# Altium footprint library PcbLib1.PcbLib: 226 footprints (part 14 of 15)
Each footprint in its own frame and in the unit in brackets; x right, y up, seen from the top. Pads: shape width x height; smd on the part's side, far side on the other; paste and mask are expansions set on the pad; w line width, h text height; cw(c..) or ccw(c..) is an arc to the next point about the centre after c.
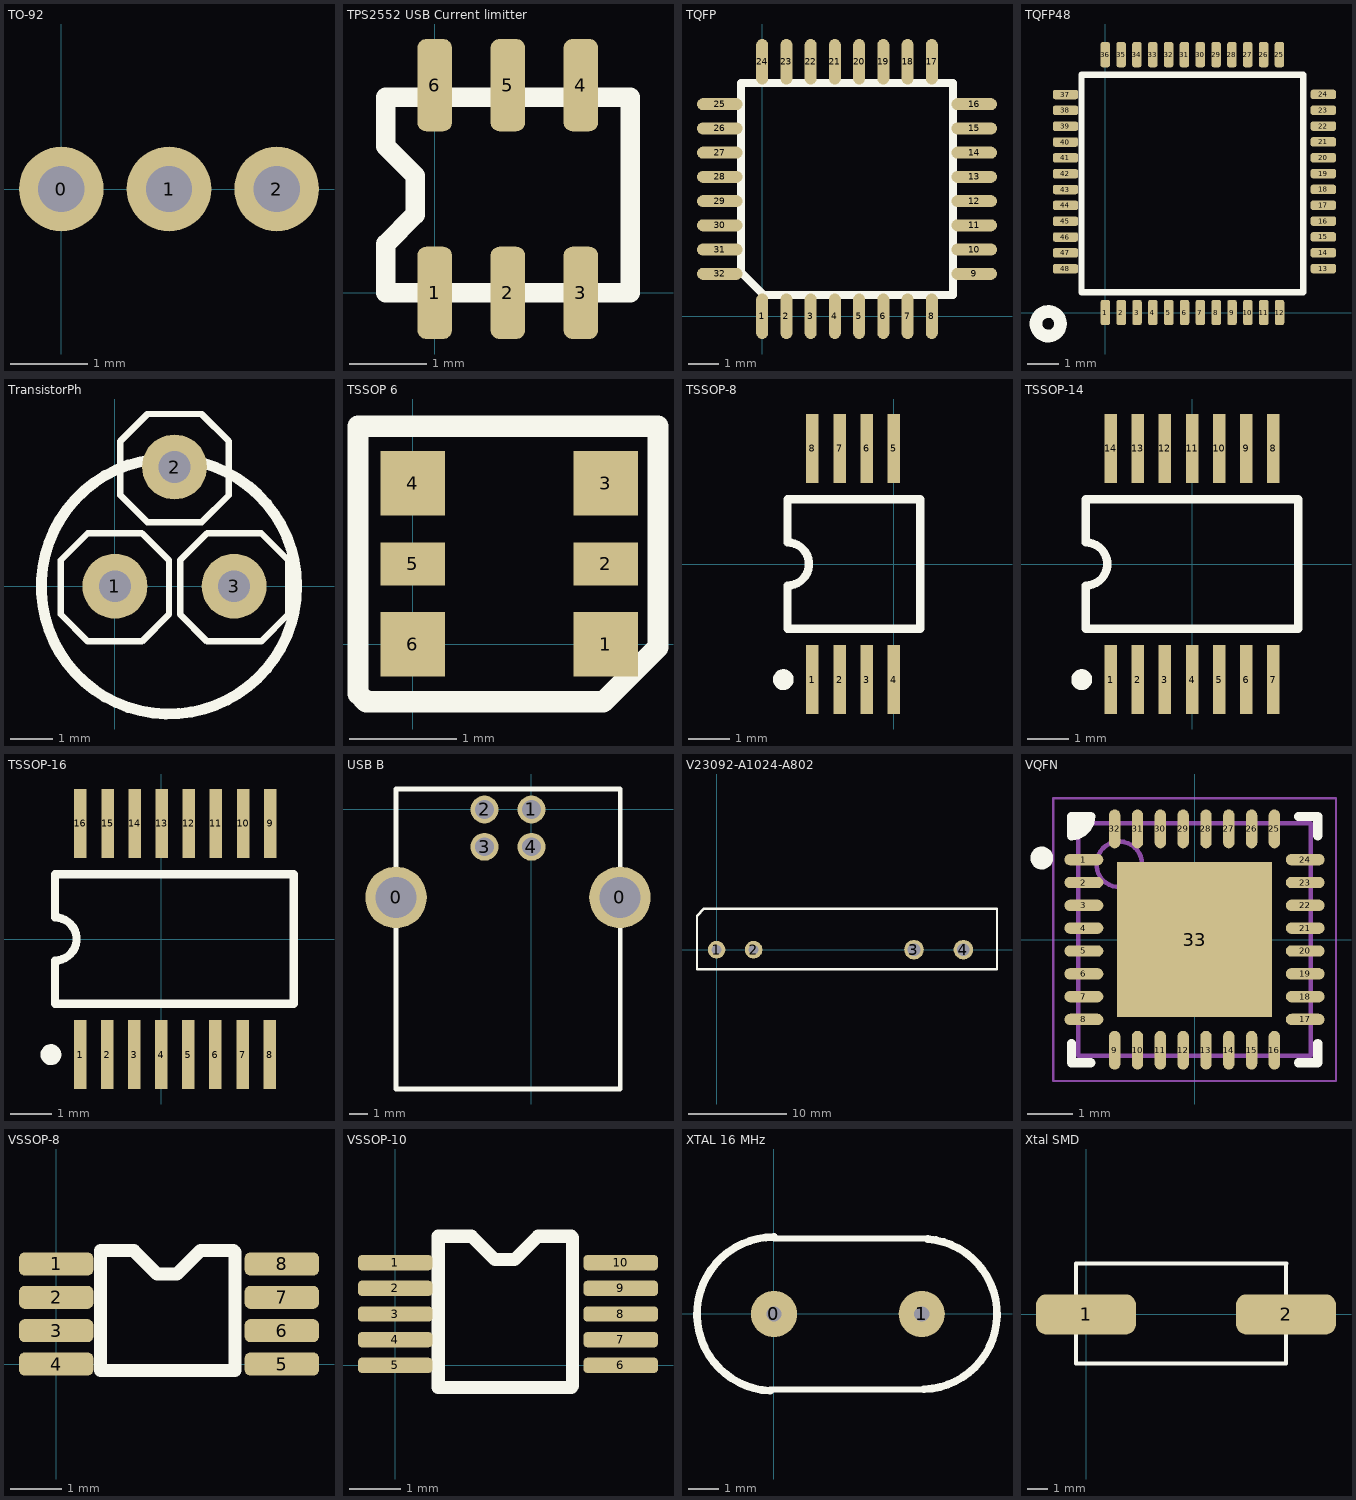
[diagram p13: the footprints below, top view; thin cyan lines are the x and y axes]

## TO-92 [mm]
pads (3):
  round 1.1 hole 0.6: 0(0,0) 1(1.4,0) 2(2.8,0)

## TPS2552 USB Current limitter [mm]
pads (6):
  rrect50% 0.45x1.2 smd mask+0.05: 1(0,0) 2(0.95,0) 3(1.9,0) 4(1.9,2.7) 5(0.95,2.7) 6(0,2.7)
Top Overlay:
  lines w0.254: -0.635,0 -0.635,0.635 -0.254,1.016 -0.254,1.524 -0.635,1.905 -0.635,2.54 2.54,2.54 2.54,0 -0.635,0

## TQFP [mm]
height 2
pads (32):
  oval 0.4x1.5 smd mask+0.05: 1(0,0) 2(0.8,0) 3(1.6,0) 4(2.4,0) 5(3.2,0) 6(4,0) 7(4.8,0) 8(5.6,0) 17(5.6,8.4) 18(4.8,8.4) 19(4,8.4) 20(3.2,8.4) 21(2.4,8.4) 22(1.6,8.4) 23(0.8,8.4) 24(0,8.4)
  oval 1.5x0.4 smd mask+0.05: 9(7,1.4) 10(7,2.2) 11(7,3) 12(7,3.8) 13(7,4.6) 14(7,5.4) 15(7,6.2) 16(7,7) 25(-1.4,7) 26(-1.4,6.2) 27(-1.4,5.4) 28(-1.4,4.6) 29(-1.4,3.8) 30(-1.4,3) 31(-1.4,2.2) 32(-1.4,1.4)
Top Overlay:
  lines w0.254: -0.7,1.462 -0.7,7.7 6.3,7.7 6.3,0.7 0.062,0.7 -0.7,1.462

## TQFP48 [mm]
height 1
pads (48):
  rrect50% 0.3x0.8 smd mask+0.05: 1(0,0) 2(0.5,0) 3(1,0) 4(1.5,0) 5(2,0) 6(2.5,0) 7(3,0) 8(3.5,0) 9(4,0) 10(4.5,0) 11(5,0) 12(5.5,0) 25(5.497,8.143) 26(4.997,8.143) 27(4.497,8.143) 28(3.997,8.143) 29(3.497,8.143) 30(2.997,8.143) 31(2.497,8.143) 32(1.997,8.143) 33(1.497,8.143) 34(0.997,8.143) 35(0.497,8.143) 36(-0.003,8.143)
  rrect50% 0.8x0.3 smd mask+0.05: 13(6.883,1.387) 14(6.883,1.887) 15(6.883,2.387) 16(6.883,2.887) 17(6.883,3.387) 18(6.883,3.887) 19(6.883,4.387) 20(6.883,4.887) 21(6.883,5.387) 22(6.883,5.887) 23(6.883,6.387) 24(6.883,6.887) 37(-1.26,6.883) 38(-1.26,6.383) 39(-1.26,5.883) 40(-1.26,5.383) 41(-1.26,4.883) 42(-1.26,4.383) 43(-1.26,3.883) 44(-1.26,3.383) 45(-1.26,2.883) 46(-1.26,2.383) 47(-1.26,1.883) 48(-1.26,1.383)
Top Overlay:
  circle w0.4: c-1.803,-0.356 r0.387
  lines w0.2: -0.752,0.635 -0.752,7.508 6.248,7.508 6.248,0.635 -0.752,0.635

## TransistorPh [mm]
height 2
pads (3):
  round 1.524 hole 0.75: 1(0,0) 3(2.8,0)
  round 1.524 hole 0.75 mask+0.102: 2(1.4,2.8)
Top Overlay:
  circle w0.254: c1.27,0 r3
  lines w0.152: -0.635,1.245 -1.27,0.61 -1.27,-0.66 -0.635,-1.295 0.635,-1.295 1.27,-0.66 ; -0.635,1.245 0.635,1.245 ; -0.635,1.245 0.635,1.245 ; 0.635,1.245 1.27,0.61 ; 0.765,4.045 2.035,4.045 ; 0.765,4.045 2.035,4.045 ; 0.765,4.045 0.13,3.41 0.13,2.14 0.765,1.505 2.035,1.505 2.67,2.14 ; 1.27,-0.66 1.27,0.61 ; 1.27,-0.66 1.27,0.61 ; 2.035,4.045 2.67,3.41 ; 2.165,1.245 1.53,0.61 1.53,-0.66 2.165,-1.295 3.435,-1.295 4.07,-0.66 ; 2.165,1.245 3.435,1.245 ; 2.165,1.245 3.435,1.245 ; 2.67,2.14 2.67,3.41 ; 2.67,2.14 2.67,3.41 ; 3.435,1.245 4.07,0.61 ; 4.07,-0.66 4.07,0.61 ; 4.07,-0.66 4.07,0.61

## TSSOP 6 [mm]
height 1
pads (6):
  rect 0.6x0.6 smd: 1(1.8,0) 3(1.8,1.5) 4(0,1.5) 6(0,0)
  rect 0.6x0.4 smd: 2(1.8,0.75) 5(0,0.75)
Top Overlay:
  lines w0.2: -0.508,-0.457 -0.508,2.032 2.286,2.032 2.286,-0.025 1.778,-0.533 -0.432,-0.533 -0.508,-0.457

## TSSOP-8 [mm] "Shrink Small Outline, Plastic, Thin; 14 Leads; Body Width 4.4 mm; Pitch 0.65 mm"
height 1.1
pads (8):
  rect 0.3x1.65 smd: 1(-1.95,-2.775) 2(-1.3,-2.775) 3(-0.65,-2.775) 4(0,-2.775) 5(0,2.775) 6(-0.65,2.775) 7(-1.3,2.775) 8(-1.95,2.775)
Top Overlay:
  circle w0.25: c-2.65,-2.775 r0.125
  lines w0.2: -2.55,-1.55 0.635,-1.55 0.635,1.55 -2.55,1.55 -2.55,0.517 cw(c-2.55,0) -2.55,-0.517 -2.55,-1.55

## TSSOP-14 [mm] "Shrink Small Outline, Plastic, Thin; 14 Leads; Body Width 4.4 mm; Pitch 0.65 mm"
height 1.1
pads (14):
  rect 0.3x1.65 smd: 1(-1.95,-2.775) 2(-1.3,-2.775) 3(-0.65,-2.775) 4(0,-2.775) 5(0.65,-2.775) 6(1.3,-2.775) 7(1.95,-2.775) 8(1.95,2.775) 9(1.3,2.775) 10(0.65,2.775) 11(0,2.775) 12(-0.65,2.775) 13(-1.3,2.775) 14(-1.95,2.775)
Top Overlay:
  circle w0.25: c-2.65,-2.775 r0.125
  lines w0.2: -2.55,-1.55 -2.55,-0.517 ccw(c-2.55,0) -2.55,0.517 -2.55,1.55 2.55,1.55 2.55,-1.55 -2.55,-1.55

## TSSOP-16 [mm] "Shrink Small Outline, Plastic, Thin; 14 Leads; Body Width 4.4 mm; Pitch 0.65 mm"
height 1.1
pads (16):
  rect 0.3x1.65 smd: 1(-1.95,-2.775) 2(-1.3,-2.775) 3(-0.65,-2.775) 4(0,-2.775) 5(0.65,-2.775) 6(1.3,-2.775) 7(1.95,-2.775) 8(2.6,-2.775) 9(2.61,2.775) 10(1.96,2.775) 11(1.31,2.775) 12(0.66,2.775) 13(0.01,2.775) 14(-0.64,2.775) 15(-1.29,2.775) 16(-1.95,2.775)
Top Overlay:
  circle w0.25: c-2.65,-2.775 r0.125
  lines w0.2: -2.55,-1.55 -2.55,-0.517 ccw(c-2.55,0) -2.55,0.517 -2.55,1.55 3.175,1.55 3.175,-1.55 -2.55,-1.55

## USB B [mm]
height 12
pads (6):
  round 3.3 hole 2.21: 0(-7.27,-4.72) 0(4.75,-4.72)
  round 1.5 hole 1: 1(0,0) 2(-2.52,0) 3(-2.52,-2) 4(0,-2)
Top Overlay:
  lines w0.254: -7.27,-15 4.77,-15 4.77,1.1 -7.27,1.1 -7.27,-15

## V23092-A1024-A802 [mm]
pads (4):
  round 1.8 hole 1: 1(0,0) 2(3.78,0)
  round 2 hole 1.3: 3(20.16,0) 4(25.2,0)
Top Overlay:
  lines w0.254: -2,-2 28.639,-2 28.639,4.191 -1.27,4.191 -2,3.461 -2,-2

## VQFN [mm]
height 1
pads (33):
  oval 0.85x0.25 smd: 1(-2.425,1.75) 2(-2.425,1.25) 3(-2.425,0.75) 4(-2.425,0.25) 5(-2.425,-0.25) 6(-2.425,-0.75) 7(-2.425,-1.25) 8(-2.425,-1.75) 17(2.425,-1.75) 18(2.425,-1.25) 19(2.425,-0.75) 20(2.425,-0.25) 21(2.425,0.25) 22(2.425,0.75) 23(2.425,1.25) 24(2.425,1.75)
  oval 0.25x0.85 smd: 9(-1.75,-2.425) 10(-1.25,-2.425) 11(-0.75,-2.425) 12(-0.25,-2.425) 13(0.25,-2.425) 14(0.75,-2.425) 15(1.25,-2.425) 16(1.75,-2.425) 25(1.75,2.425) 26(1.25,2.425) 27(0.75,2.425) 28(0.25,2.425) 29(-0.25,2.425) 30(-0.75,2.425) 31(-1.25,2.425) 32(-1.75,2.425)
  rect 3.4x3.4 smd: 33(0,0)
Top Overlay:
  circle w0.25: c-3.35,1.788 r0.125
  region: -2.7,2.7 -2.275,2.7 -2.275,2.551 -2.551,2.275 -2.7,2.275
  lines w0.2: -2.7,-2.275 -2.7,-2.7 -2.275,-2.7 ; 2.275,-2.7 2.7,-2.7 2.7,-2.275 ; 2.275,2.7 2.7,2.7 2.7,2.275 ; -2.7,2.275 ccw(c-2.7,2.7) -2.275,2.7 -2.7,2.7 -2.7,2.275
Mechanical 13:
  circle w0.1: c-1.65,1.65 r0.5
  lines w0.1: -2.55,-2.55 -2.55,2.55 2.55,2.55 2.55,-2.55 -2.55,-2.55
Mechanical 15:
  lines w0.05: -3.1,-3.1 -3.1,3.1 3.1,3.1 3.1,-3.1 -3.1,-3.1
  lines w0.1: -0.5,0 0.5,0 ; 0,-0.5 0,0.5
3D body: height 0.85, standoff 0, extent -2.55,-2.55 2.55,2.55

## VSSOP-8 [mm]
height 2
pads (8):
  rrect50% 1.45x0.45 smd mask+0.05: 1(0,1.95) 2(0,1.3) 3(0,0.65) 4(0,0) 5(4.394,0) 6(4.394,0.65) 7(4.394,1.3) 8(4.394,1.95)
Top Overlay:
  lines w0.254: 0.864,-0.127 0.864,2.21 1.511,2.21 1.968,1.753 2.349,1.753 2.807,2.21 3.454,2.21 3.48,2.184 3.48,-0.127 0.864,-0.127

## VSSOP-10 [mm]
height 1
pads (10):
  rrect50% 1.45x0.3 smd mask+0.05: 1(0,2) 2(0,1.5) 3(0,1) 4(0,0.5) 5(0,0) 6(4.394,0) 7(4.394,0.5) 8(4.394,1) 9(4.394,1.5) 10(4.394,2)
Top Overlay:
  lines w0.254: 0.838,-0.432 0.838,2.515 1.486,2.515 1.943,2.057 2.324,2.057 2.781,2.515 3.429,2.515 3.454,2.489 3.454,-0.406 3.429,-0.432 0.838,-0.432

## XTAL 16 MHz [mil]
height 157.48
pads (2):
  round 60 hole 19.68: 0(0,0) 1(192.13,0)
Top Overlay:
  lines w7.87: -5.08,-98.43 195.09,-98.43 ; 0,98.43 199.93,98.43
  lines w10: -5.08,-100 cw(c0,0) 0,100.12 ; 195.09,-97.83 ccw(c192.13,0) 199.93,97.56

## Xtal SMD [mm]
pads (2):
  rrect50% 5x2 smd: 1(0,0) 2(10,0)
Top Overlay:
  lines w0.2: -0.508,2.54 -0.508,-2.46 9.992,-2.46 9.992,2.54 ; -0.467,2.54 10.033,2.54